# Altium footprint library Molex46562-1150.PcbLib: 1 footprints
Each footprint in its own frame and in the unit in brackets; x right, y up, seen from the top. Pads: shape width x height; smd on the part's side, far side on the other; paste and mask are expansions set on the pad; w line width, h text height; cw(c..) or ccw(c..) is an arc to the next point about the centre after c.
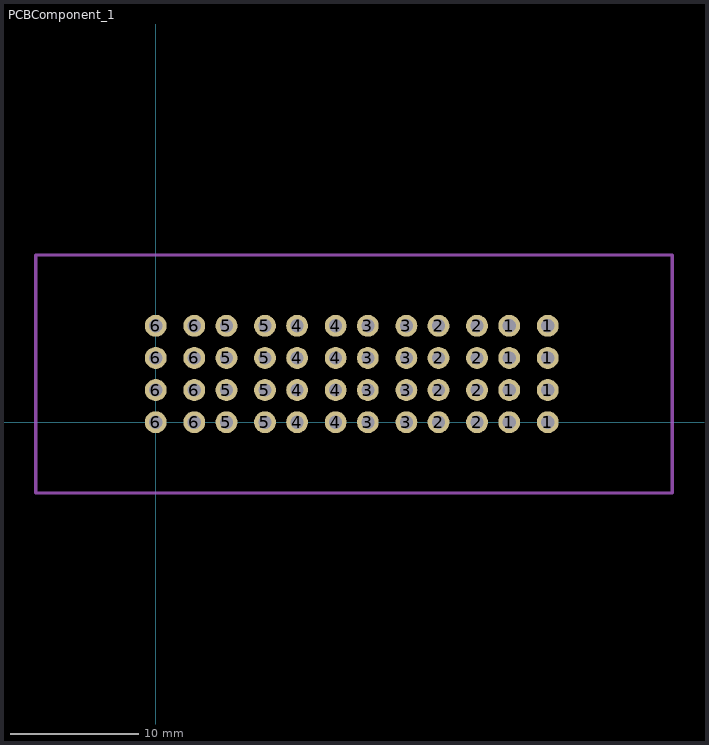
[diagram p0: the footprint, top view; thin cyan lines are the x and y axes]

## PCBComponent_1 [mm]
pads (48):
  round 1.7 hole 1.02: 1(27.5,0) 1(27.5,2.5) 1(27.5,5) 1(27.5,7.5) 1(30.5,0) 1(30.5,2.5) 1(30.5,5) 1(30.5,7.5) 2(22,0) 2(22,2.5) 2(22,5) 2(22,7.5) 2(25,0) 2(25,2.5) 2(25,5) 2(25,7.5) 3(16.5,0) 3(16.5,2.5) 3(16.5,5) 3(16.5,7.5) 3(19.5,0) 3(19.5,2.5) 3(19.5,5) 3(19.5,7.5) 4(11,0) 4(11,2.5) 4(11,5) 4(11,7.5) 4(14,0) 4(14,2.5) 4(14,5) 4(14,7.5) 5(5.5,0) 5(5.5,2.5) 5(5.5,5) 5(5.5,7.5) 5(8.5,0) 5(8.5,2.5) 5(8.5,5) 5(8.5,7.5) 6(0,0) 6(0,2.5) 6(0,5) 6(0,7.5) 6(3,0) 6(3,2.5) 6(3,5) 6(3,7.5)
Mechanical 1:
  lines w0.254: -9.33,-5.5 40.18,-5.5 40.18,13 -9.33,13 -9.33,-5.5